# Altium footprint library STM32_PLC.PcbLib: 129 footprints (part 1 of 9)
Each footprint in its own frame and in the unit in brackets; x right, y up, seen from the top. Pads: shape width x height; smd on the part's side, far side on the other; paste and mask are expansions set on the pad; w line width, h text height; cw(c..) or ccw(c..) is an arc to the next point about the centre after c.
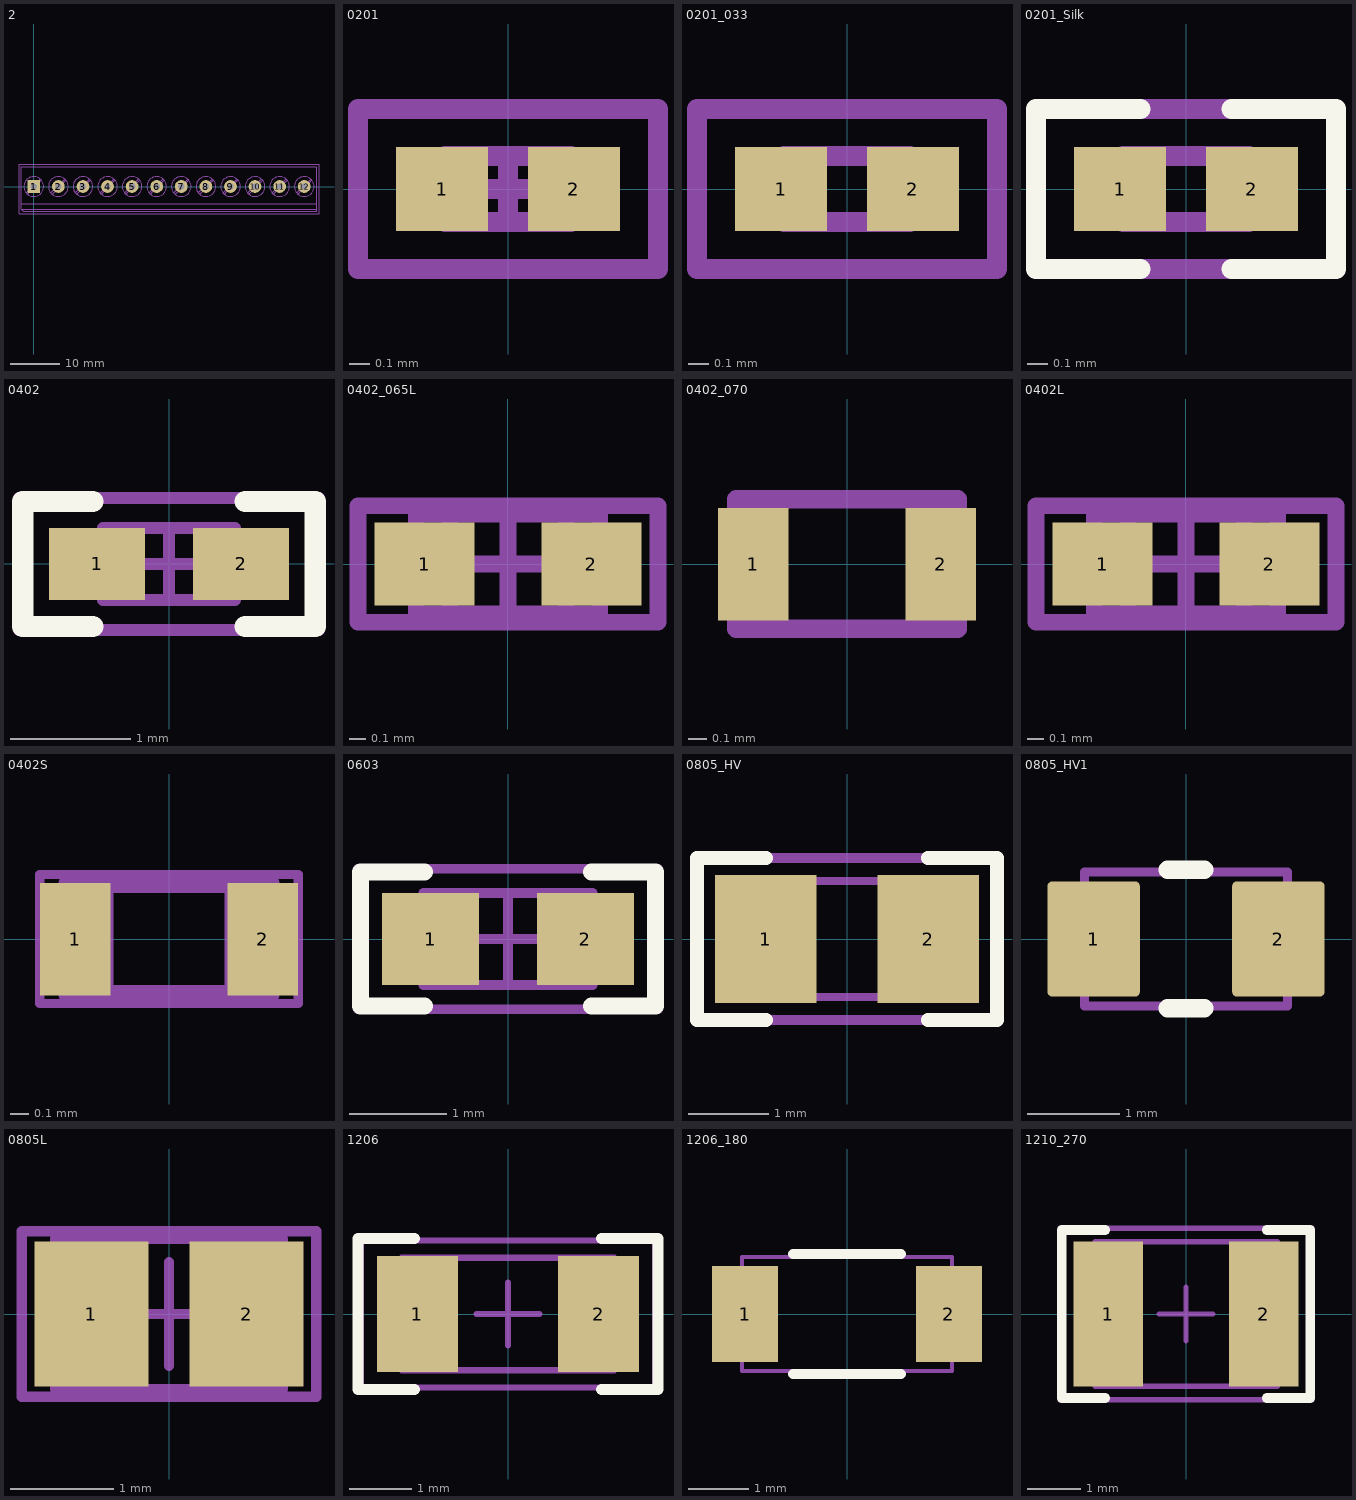
[diagram p0: the footprints below, top view; thin cyan lines are the x and y axes]

## 2 [mm]
pads (12):
  rect 2.6x2.6 hole 1.3: 1(0,0)
  round 2.6 hole 1.3: 2(5,0) 3(10,0) 4(15,0) 5(20,0) 6(25,0) 7(30,0) 8(35,0) 9(40,0) 10(45,0) 11(50,0) 12(55,0)
Mechanical 4:
  lines w0.254: -3,-5.5 58,-5.5 58,4.5 -3,4.5 -3,-5.5
Mechanical 6:
  circle w0.254: c55,0 r2
  circle w0.254: c50,0 r2
  circle w0.254: c45,0 r2
  circle w0.254: c40,0 r2
  circle w0.254: c35,0 r2
  circle w0.254: c30,0 r2
  circle w0.254: c25,0 r2
  circle w0.254: c20,0 r2
  circle w0.254: c15,0 r2
  circle w0.254: c10,0 r2
  circle w0.254: c5,0 r2
  circle w0.254: c0,0 r2
  lines w0.254: -2.5,-3.5 57.5,-3.5 ; -1.517,-1.273 1.273,1.517 ; -1.273,-1.517 1.517,1.273 ; 3.484,-1.273 6.273,1.517 ; 3.728,-1.517 6.517,1.273 ; 8.484,-1.273 11.273,1.517 ; 8.728,-1.517 11.517,1.273 ; 13.484,-1.273 16.273,1.517 ; 13.728,-1.517 16.517,1.273 ; 18.484,-1.273 21.273,1.517 ; 18.728,-1.517 21.517,1.273 ; 23.484,-1.273 26.273,1.517 ; 23.728,-1.517 26.517,1.273 ; 28.484,-1.273 31.273,1.517 ; 28.728,-1.517 31.517,1.273 ; 33.484,-1.273 36.273,1.517 ; 33.728,-1.517 36.517,1.273 ; 38.484,-1.273 41.273,1.517 ; 38.728,-1.517 41.517,1.273 ; 43.484,-1.273 46.273,1.517 ; 43.728,-1.517 46.517,1.273 ; 48.484,-1.273 51.273,1.517 ; 48.728,-1.517 51.517,1.273 ; 53.484,-1.273 56.273,1.517 ; 53.728,-1.517 56.517,1.273 ; 57.5,-4.6 -2.5,-4.6 ; -2.5,-4.6 -2.1,-5 57.5,-5 57.5,4 -2.5,4 -2.5,-4.6
  text "'.Designator'" at 26.061,-3.298 h1
3D body "TerminalBlock_Phoenix_PT-1,5-12-5.0-H_1x12_P5.00mm_Horizontal.step": height 11.4, standoff -3.6, extent -2.5,-5 58.07,4

## 0201 [mm] "Data from Kemet datasheet CC101_COM dated 7/28/11"
height 0.26
pads (2):
  rect 0.46x0.42 smd mask+0.048: 1(-0.33,0) 2(0.33,0)
Mechanical 5:
  lines w0.1: -0.75,-0.4 0.75,-0.4 0.75,0.4 -0.75,0.4 -0.75,-0.4
  text ".Designator" at -0.66,-0.178 h0.36
Mechanical 13:
  lines w0.1: -0.215,-0.165 -0.215,0.165 ; 0.215,-0.165 0.215,0.165 ; -0.315,-0.165 -0.315,0.165 0.315,0.165 0.315,-0.165 -0.315,-0.165
Mechanical 15:
  lines w0.1: -0.165,0 0.165,0 ; 0,-0.165 0,0.165 ; -0.75,-0.4 -0.75,0.4 0.75,0.4 0.75,-0.4 -0.75,-0.4
3D body: height 0.26, standoff 0, extent -0.314,-0.164 -0.216,0.164
3D body: height 0.26, standoff 0, extent -0.214,-0.164 0.214,0.164
3D body: height 0.26, standoff 0, extent 0.216,-0.164 0.314,0.164

## 0201_033 [mm] "SMD, 2-Leads, Height 0.33mm"
height 0.33
pads (2):
  rect 0.46x0.42 smd mask+0: 1(-0.33,0) 2(0.33,0)
Mechanical 5:
  lines w0.1: -0.75,-0.4 -0.75,0.4 0.75,0.4 0.75,-0.4 -0.75,-0.4
  text ".Designator" at -0.592,-0.168 h0.36
Mechanical 14:
  lines w0.1: -0.215,-0.165 -0.215,0.165 ; 0.215,-0.165 0.215,0.165 ; -0.315,-0.165 0.315,-0.165 0.315,0.165 -0.315,0.165 -0.315,-0.165
3D body: height 0.33, standoff 0, extent 0.216,-0.164 0.314,0.164
3D body: height 0.33, standoff 0, extent -0.214,-0.164 0.214,0.164
3D body: height 0.33, standoff 0, extent -0.314,-0.164 -0.216,0.164

## 0201_Silk [mm] "Data from Kemet datasheet CC101_COM dated 7/28/11"
height 0.26
pads (2):
  rect 0.46x0.42 smd mask+0: 1(-0.33,0) 2(0.33,0)
Top Overlay:
  lines w0.1: -0.229,-0.4 -0.75,-0.4 -0.75,0.4 -0.229,0.4 ; 0.229,-0.4 0.75,-0.4 0.75,0.4 0.229,0.4
Mechanical 5:
  lines w0.1: -0.75,-0.4 0.75,-0.4 0.75,0.4 -0.75,0.4 -0.75,-0.4
  text ".Designator" at -0.45,-0.178 h0.36
Mechanical 13:
  lines w0.1: -0.215,-0.165 -0.215,0.165 ; 0.215,-0.165 0.215,0.165 ; -0.315,-0.165 -0.315,0.165 0.315,0.165 0.315,-0.165 -0.315,-0.165
3D body: height 0.26, standoff 0, extent -0.314,-0.164 -0.216,0.164
3D body: height 0.26, standoff 0, extent -0.214,-0.164 0.214,0.164
3D body: height 0.26, standoff 0, extent 0.216,-0.164 0.314,0.164

## 0402 [mm] "0402 from SM-752 data"
height 0.6
pads (2):
  rect 0.8x0.6 smd: 1(-0.6,0) 2(0.6,0)
Top Overlay:
  lines w0.178: -0.635,-0.521 -1.219,-0.521 -1.219,0.521 -0.635,0.521 ; 0.635,-0.521 1.219,-0.521 1.219,0.521 0.635,0.521
Mechanical 5:
  lines w0.1: -1.25,-0.55 -1.25,0.55 1.25,0.55 1.25,-0.55 -1.25,-0.55
  text ".Designator" at -1.117,-0.305 h0.61
Mechanical 14:
  lines w0.1: -0.35,-0.3 -0.35,0.3 ; 0.35,-0.3 0.35,0.3 ; -0.55,-0.3 0.55,-0.3 0.55,0.3 -0.55,0.3 -0.55,-0.3
Mechanical 16:
  lines w0.1: -0.3,0 0.3,0 ; 0,-0.3 0,0.3 ; -1.25,-0.55 1.25,-0.55 1.25,0.55 -1.25,0.55 -1.25,-0.55
3D body: height 0.6, standoff 0, extent 0.351,-0.299 0.549,0.299
3D body: height 0.6, standoff 0, extent -0.349,-0.299 0.349,0.299
3D body: height 0.6, standoff 0, extent -0.549,-0.299 -0.351,0.299

## 0402_065L [mm] "0402"
height 0.65
pads (2):
  rect 0.6x0.5 smd: 1(-0.5,0) 2(0.5,0)
Mechanical 5:
  lines w0.1: -0.9,-0.35 0.9,-0.35 0.9,0.35 -0.9,0.35 -0.9,-0.35
  text ".Designator" at -0.611,-0.219 h0.43
Mechanical 14:
  lines w0.1: -0.35,-0.3 -0.35,0.3 ; 0.35,-0.3 0.35,0.3 ; -0.55,-0.3 -0.55,0.3 0.55,0.3 0.55,-0.3 -0.55,-0.3
Mechanical 16:
  lines w0.1: -0.3,0 0.3,0 ; 0,-0.3 0,0.3 ; -0.9,-0.35 -0.9,0.35 0.9,0.35 0.9,-0.35 -0.9,-0.35
3D body: height 0.65, standoff 0, extent -0.549,-0.299 -0.351,0.299
3D body: height 0.65, standoff 0, extent -0.349,-0.299 0.349,0.299
3D body: height 0.65, standoff 0, extent 0.351,-0.299 0.549,0.299

## 0402_070 [mil] "SMD, 2-Leads, Body 1.2x0.7mm, Height 0.7mm"
height 27.56
pads (2):
  rect 15x24 smd: 1(-20,0) 2(20,0)
Mechanical 5:
  lines w3.94: -23.62,-13.78 -23.62,13.78 23.62,13.78 23.62,-13.78 -23.62,-13.78
  text ".Designator" at -21.65,-5.91 h12
3D body: height 27.56, standoff 0, extent 13.78,-13.78 23.62,13.78
3D body: height 27.56, standoff 0, extent -23.62,-13.78 -13.78,13.78
3D body: height 27.56, standoff 0, extent -13.78,-13.78 13.78,13.78

## 0402L [mm] "0402 from SM-752 data"
height 0.6
pads (2):
  rect 0.6x0.5 smd: 1(-0.5,0) 2(0.5,0)
Mechanical 5:
  lines w0.1: -0.9,-0.35 -0.9,0.35 0.9,0.35 0.9,-0.35 -0.9,-0.35
  text ".Designator" at 0.555,0.225 h0.43
Mechanical 13:
  lines w0.1: -0.35,-0.3 -0.35,0.3 ; 0.35,-0.3 0.35,0.3 ; -0.55,-0.3 0.55,-0.3 0.55,0.3 -0.55,0.3 -0.55,-0.3
Mechanical 15:
  lines w0.1: -0.3,0 0.3,0 ; 0,-0.3 0,0.3 ; -0.9,-0.35 0.9,-0.35 0.9,0.35 -0.9,0.35 -0.9,-0.35
3D body: height 0.6, standoff 0, extent 0.351,-0.299 0.549,0.299
3D body: height 0.6, standoff 0, extent -0.349,-0.299 0.349,0.299
3D body: height 0.6, standoff 0, extent -0.549,-0.299 -0.351,0.299

## 0402S [mil] "Based on C0402S footprint from PADS legacy"
height 23.62
pads (2):
  rect 15x24 smd: 1(-20,0) 2(20,0)
Mechanical 5:
  lines w1.97: -27.56,-13.78 27.56,-13.78 27.56,13.78 -27.56,13.78 -27.56,-13.78
  text ".Designator" at -21.65,-5.91 h12
Mechanical 14:
  lines w3.94: -13.78,-11.81 -13.78,11.81 ; 13.78,-11.81 13.78,11.81 ; -21.65,-11.81 -21.65,11.81 21.65,11.81 21.65,-11.81 -21.65,-11.81
3D body: height 23.62, standoff 0, extent -21.63,-11.79 -13.8,11.79
3D body: height 23.62, standoff 0, extent -13.76,-11.79 13.76,11.79
3D body: height 23.62, standoff 0, extent 13.8,-11.79 21.63,11.79

## 0603 [mm] "0603 from SM-752 data"
height 1
pads (2):
  rect 1x0.95 smd: 1(-0.8,0) 2(0.8,0)
Top Overlay:
  lines w0.178: -0.864,-0.691 -1.524,-0.691 -1.524,0.693 -0.864,0.693 ; 0.864,-0.691 1.524,-0.691 1.524,0.693 0.864,0.693
Mechanical 5:
  lines w0.1: -1.55,-0.725 1.55,-0.725 1.55,0.725 -1.55,0.725 -1.55,-0.725
  text ".Designator" at -1.397,-0.381 h0.76
Mechanical 13:
  lines w0.1: -0.55,-0.475 -0.55,0.475 ; 0.55,-0.475 0.55,0.475 ; -0.875,-0.475 -0.875,0.475 0.875,0.475 0.875,-0.475 -0.875,-0.475
Mechanical 15:
  lines w0.1: -0.475,0 0.475,0 ; 0,-0.475 0,0.475 ; -1.55,-0.725 -1.55,0.725 1.55,0.725 1.55,-0.725 -1.55,-0.725
3D body: height 1, standoff 0, extent 0.551,-0.474 0.874,0.474
3D body: height 1, standoff 0, extent -0.549,-0.474 0.549,0.474
3D body: height 1, standoff 0, extent -0.874,-0.474 -0.551,0.474

## 0805_HV [mil] "0805 with 30mil clearance between pads"
height 57.09
pads (2):
  rect 50x63 smd: 1(-40,0) 2(40,0)
Top Overlay:
  lines w7: -40,-40 -74,-40 -74,0 -74,40 -40,40 ; 40,-40 74,-40 74,0 74,40 40,40
Mechanical 5:
  lines w5: -74,-40 -74,40 74,40 74,-40 -74,-40
  text ".Designator" at -64,-17 h35
Mechanical 13:
  lines w3.94: -25.59,-28.54 -25.59,28.54 ; 25.59,-28.54 25.59,28.54 ; -43.31,-28.54 -43.31,28.54 43.31,28.54 43.31,-28.54 -43.31,-28.54
3D body: height 57.09, standoff 0, extent 25.61,-28.52 43.29,28.52
3D body: height 57.09, standoff 0, extent -25.57,-28.52 25.57,28.52
3D body: height 57.09, standoff 0, extent -43.29,-28.52 -25.61,28.52

## 0805_HV1 [mm] "Custom footprint based on analyzing multiple manufacturer recommendations"
height 1.45
pads (2):
  rrect10% 1x1.25 smd: 1(-1,0) 2(1,0)
Top Overlay:
  lines w0.2: -0.2,-0.75 0.2,-0.75 ; -0.2,0.75 0.2,0.75
Mechanical 5:
  lines w0.1: -1.1,-0.725 -1.1,0.725 1.1,0.725 1.1,-0.725 -1.1,-0.725
  text ".Designator" at 0.66,0.249 h0.51
3D body: height 1.45, standoff 0, extent -1.1,-0.725 1.1,0.725

## 0805L [mm] "0805 from SM-752 data"
height 1.45
pads (2):
  rect 1.1x1.4 smd: 1(-0.75,0) 2(0.75,0)
Mechanical 5:
  lines w0.1: -1.425,-0.8 -1.425,0.8 1.425,0.8 1.425,-0.8 -1.425,-0.8
  text ".Designator" at 1.119,0.322 h0.64
Mechanical 14:
  lines w0.1: -0.65,-0.725 -0.65,0.725 ; 0.65,-0.725 0.65,0.725 ; -1.1,-0.725 1.1,-0.725 1.1,0.725 -1.1,0.725 -1.1,-0.725
Mechanical 16:
  lines w0.1: -0.5,0 0.5,0 ; 0,-0.5 0,0.5 ; -1.425,-0.8 1.425,-0.8 1.425,0.8 -1.425,0.8 -1.425,-0.8
3D body: height 1.45, standoff 0, extent -1.099,-0.724 -0.651,0.724
3D body: height 1.45, standoff 0, extent -0.649,-0.724 0.649,0.724
3D body: height 1.45, standoff 0, extent 0.651,-0.724 1.099,0.724

## 1206 [mm] "1206 from SM-752 data"
height 1.35
pads (2):
  rect 1.3x1.85 smd: 1(-1.45,0) 2(1.45,0)
Top Overlay:
  lines w0.178: -1.5,-1.21 -2.4,-1.21 -2.4,1.21 -1.5,1.21 ; 1.5,-1.21 2.4,-1.21 2.4,1.21 1.5,1.21
Mechanical 5:
  lines w0.1: -1.7,-0.9 -1.7,0.9 1.7,0.9 1.7,-0.9 -1.7,-0.9
  text ".Designator" at 0.596,0.2 h0.81
Mechanical 13:
  lines w0.1: -1.2,-0.9 -1.2,0.9 ; 1.2,-0.9 1.2,0.9 ; -1.7,-0.9 -1.7,0.9 1.7,0.9 1.7,-0.9 -1.7,-0.9
Mechanical 15:
  lines w0.1: -0.5,0 0.5,0 ; 0,-0.5 0,0.5 ; -2.35,-1.175 -2.35,1.175 2.35,1.175 2.35,-1.175 -2.35,-1.175
3D body: height 1.35, standoff 0, extent 1.201,-0.899 1.699,0.899
3D body: height 1.35, standoff 0, extent -1.199,-0.899 1.199,0.899
3D body: height 1.35, standoff 0, extent -1.699,-0.899 -1.201,0.899

## 1206_180 [mm] "1206_180"
height 1.8
pads (2):
  rect 1.1x1.6 smd: 1(-1.7,0) 2(1.7,0)
Top Overlay:
  lines w0.17: -0.9,-1 0.9,-1 ; -0.9,1 0.9,1
Mechanical 5:
  lines w0.07: -1.75,-0.95 -1.75,0.95 1.75,0.95 1.75,-0.95 -1.75,-0.95
  text ".Designator" at -1.5,-0.4 h0.81
3D body: height 1.8, standoff 0, extent -1.299,-0.949 1.299,0.949
3D body: height 1.8, standoff 0, extent 1.301,-0.949 1.749,0.949
3D body: height 1.8, standoff 0, extent -1.749,-0.949 -1.301,0.949

## 1210_270 [mm] "1210"
height 2.7
pads (2):
  rect 1.3x2.7 smd: 1(-1.45,0) 2(1.45,0)
Top Overlay:
  lines w0.178: -1.511,-1.568 -2.316,-1.568 -2.316,1.568 -1.511,1.568 ; 1.511,-1.568 2.316,-1.568 2.316,1.568 1.511,1.568
Mechanical 5:
  lines w0.1: -1.7,-1.35 1.7,-1.35 1.7,1.35 -1.7,1.35 -1.7,-1.35
  text ".Designator" at -1.4,-0.375 h0.76
Mechanical 13:
  lines w0.1: -1.2,-1.35 -1.2,1.35 ; 1.2,-1.35 1.2,1.35 ; -1.7,-1.35 -1.7,1.35 1.7,1.35 1.7,-1.35 -1.7,-1.35
Mechanical 15:
  lines w0.1: -0.5,0 0.5,0 ; 0,-0.5 0,0.5 ; -2.35,-1.6 -2.35,1.6 2.35,1.6 2.35,-1.6 -2.35,-1.6
3D body: height 2.7, standoff 0, extent -1.699,-1.349 -1.201,1.349
3D body: height 2.7, standoff 0, extent -1.199,-1.349 1.199,1.349
3D body: height 2.7, standoff 0, extent 1.201,-1.349 1.699,1.349